# EAGLE library part INA199 (library comma.ai)
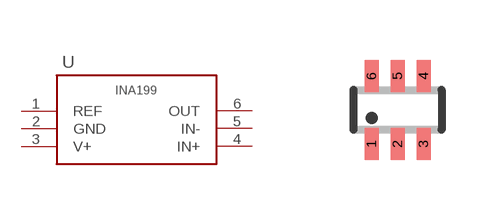
[diagram p5: symbol with the pads of SC70-6L; footprint SC70-6L]

Designator prefix U

## INA199  [SC70-6L]
1  REF
2  GND
3  V+
4  IN+
5  IN-
6  OUT

## Footprint SC70-6L (pad centres in mm)
SC-70 Package
smd 0.35 x 0.8: 1 -0.65,-0.85; 2 0,-0.85; 3 0.65,-0.85; 4 0.65,0.85; 5 0,0.85; 6 -0.65,0.85